# EAGLE library part 8-PIN_FOSTER_ASSY (library NewSDR)
8-Pin Foster Connector PCB Mount Assembly
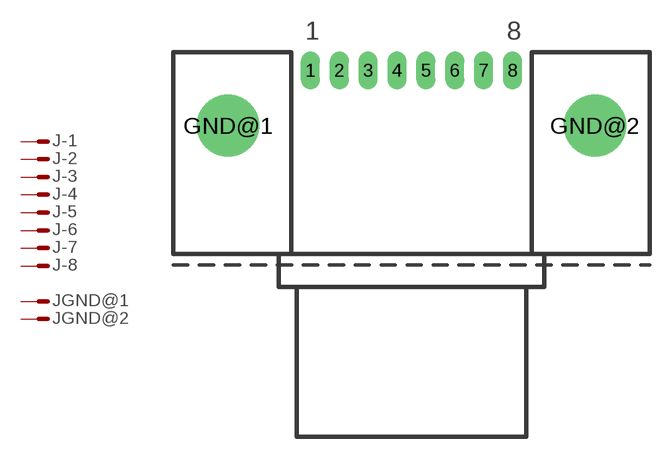
[diagram p161: symbol with the pads of 8-PIN_FOSTER_ASSY; footprint 8-PIN_FOSTER_ASSY]

Designator prefix J; gates -1=M -2=M -3=M -4=M -5=M -6=M -7=M -8=M GND@1=M GND@2=M

## 8-PIN_FOSTER_ASSY  [8-PIN_FOSTER_ASSY]
1  -1:M  pas
2  -2:M  pas
3  -3:M  pas
4  -4:M  pas
5  -5:M  pas
6  -6:M  pas
7  -7:M  pas
8  -8:M  pas
GND@1  GND@1:M  pas
GND@2  GND@2:M  pas

## Footprint 8-PIN_FOSTER_ASSY (pad centres in mm)
Custom PCB mount 8-pin Foster Connector Assembly
drill 0.8 long: 1 -7,3.835; 2 -5,3.835; 3 -3,3.835; 4 -1,3.835; 5 1,3.835; 6 3,3.835; 7 5,3.835; 8 7,3.835
drill 3.302: GND@1 -12.7,0; GND@2 12.7,0